# Altium schematic symbol library STD3NK80ZT4.Schlib: 1 symbol
Pins are listed as number, name and electrical type; pins without a type are passive.

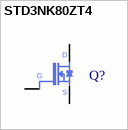
[diagram p0: symbol STD3NK80ZT4]

## STD3NK80ZT4
designator Q?  (value not drawn)
pins: 1 G, 2 D, 3 S